# Altium footprint library SC-88A.PcbLib: 1 footprints
Each footprint in its own frame and in the unit in brackets; x right, y up, seen from the top. Pads: shape width x height; smd on the part's side, far side on the other; paste and mask are expansions set on the pad; w line width, h text height; cw(c..) or ccw(c..) is an arc to the next point about the centre after c.
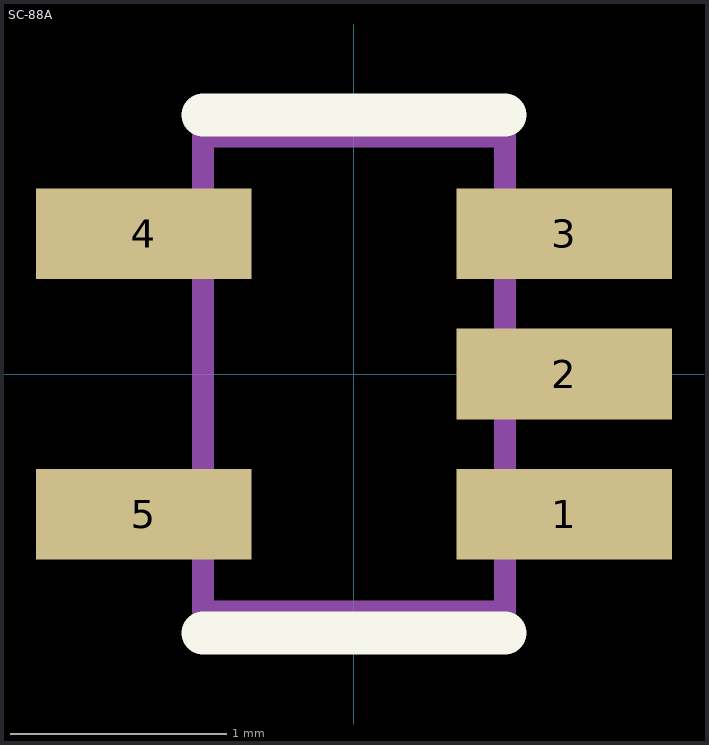
[diagram p0: the footprint, top view; thin cyan lines are the x and y axes]

## SC-88A [mm]
pads (5):
  rect 1x0.42 smd mask+0.051: 1(0.975,-0.65) 2(0.975,0) 3(0.975,0.65) 4(-0.975,0.65) 5(-0.975,-0.65)
Top Overlay:
  lines w0.2: -0.7,-1.2 0.7,-1.2 ; -0.7,1.2 0.7,1.2
Mechanical 13:
  lines w0.1: -0.7,-1.1 -0.7,1.1 0.7,1.1 0.7,-1.1 -0.7,-1.1